# EAGLE library part FT5000 (library Echelon)
Echelon FT5000 Smart Transceiver
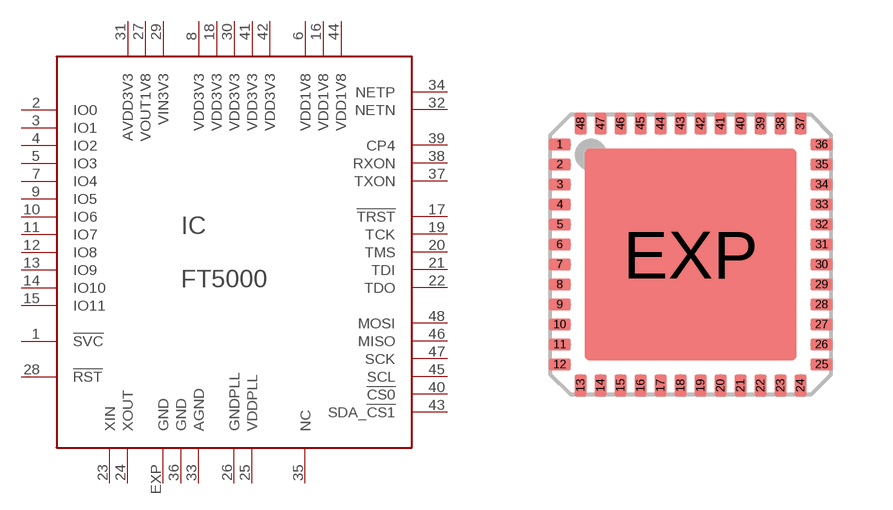
[diagram p0: symbol with the pads of QFN48; footprint QFN48]

Designator prefix IC

## FT5000  [QFN48]
1  !SVC
2  IO0
3  IO1
4  IO2
5  IO3
6  VDD1V8  pwr
7  IO4
8  VDD3V3  pwr
9  IO5
10  IO6
11  IO7
12  IO8
13  IO9
14  IO10
15  IO11
16  VDD1V8  pwr
17  !TRST
18  VDD3V3  pwr
19  TCK
20  TMS
21  TDI
22  TDO
23  XIN  oc
24  XOUT  oc
25  VDDPLL  pwr
26  GNDPLL  pwr
27  VOUT1V8  pwr
28  !RST
29  VIN3V3  pwr
30  VDD3V3  pwr
31  AVDD3V3  pwr
32  NETN
33  AGND  pwr
34  NETP
35  NC  nc
36  GND  pwr
37  TXON
38  RXON
39  CP4
40  !CS0
41  VDD3V3  pwr
42  VDD3V3  pwr
43  SDA_!CS1
44  VDD1V8  pwr
45  SCL  oc
46  MISO  oc
47  SCK  oc
48  MOSI  oc
EXP  GND  pwr

## Footprint QFN48 (pad centres in mm)
48-pin QFN 7 x 7 mm LF48 48 Quad Flat Package No Leads
smd 0.55 x 0.3: 1 -3.275,2.75; 2 -3.275,2.25; 3 -3.275,1.75; 4 -3.275,1.25; 5 -3.275,0.75; 6 -3.275,0.25; 7 -3.275,-0.25; 8 -3.275,-0.75; 9 -3.275,-1.25; 10 -3.275,-1.75; 11 -3.275,-2.25; 12 -3.275,-2.75; 25 3.275,-2.75; 26 3.275,-2.25; 27 3.275,-1.75; 28 3.275,-1.25; 29 3.275,-0.75; 30 3.275,-0.25; 31 3.275,0.25; 32 3.275,0.75; 33 3.275,1.25; 34 3.275,1.75; 35 3.275,2.25; 36 3.275,2.75
smd 0.3 x 0.55: 13 -2.75,-3.275; 14 -2.25,-3.275; 15 -1.75,-3.275; 16 -1.25,-3.275; 17 -0.75,-3.275; 18 -0.25,-3.275; 19 0.25,-3.275; 20 0.75,-3.275; 21 1.25,-3.275; 22 1.75,-3.275; 23 2.25,-3.275; 24 2.75,-3.275; 37 2.75,3.275; 38 2.25,3.275; 39 1.75,3.275; 40 1.25,3.275; 41 0.75,3.275; 42 0.25,3.275; 43 -0.25,3.275; 44 -0.75,3.275; 45 -1.25,3.275; 46 -1.75,3.275; 47 -2.25,3.275; 48 -2.75,3.275
smd 5.309 x 5.309: EXP 0,0